# EAGLE library part USB (library DSS)
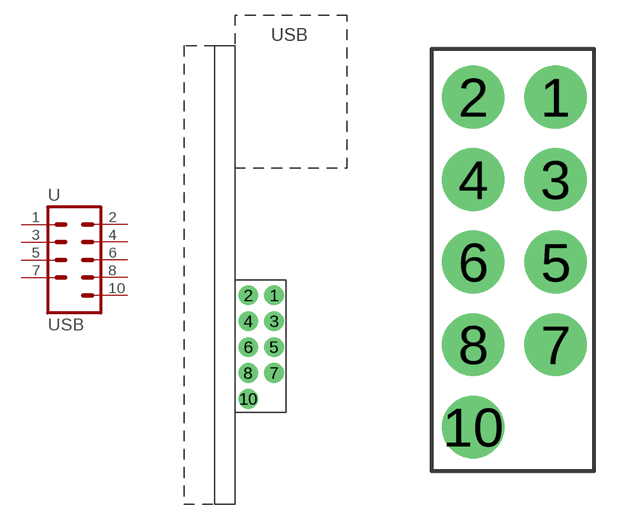
[diagram p6: symbol with the pads of DSS-USB; footprints DSS-USB, DSS-P]

Designator prefix -

## USBU  [DSS-USB]
1  1  pas
2  2  pas
3  3  pas
4  4  pas
5  5  pas
6  6  pas
7  7  pas
8  8  pas
10  10  pas

## USB  [DSS-P]
Pads as for DSS-USB

## Footprint DSS-USB (pad centres in mm)
USB адаптер
drill 0.8 pad 1.93: 1 7.62,3.81; 2 5.08,3.81; 3 7.62,1.27; 4 5.08,1.27; 5 7.62,-1.27; 6 5.08,-1.27; 7 7.62,-3.81; 8 5.08,-3.81; 10 5.08,-6.35

## Footprint DSS-P (pad centres in mm)
USB адаптер
drill 0.8 pad 1.93: 1 1.27,3.81; 2 -1.27,3.81; 3 1.27,1.27; 4 -1.27,1.27; 5 1.27,-1.27; 6 -1.27,-1.27; 7 1.27,-3.81; 8 -1.27,-3.81; 10 -1.27,-6.35